# EAGLE library part ACDC02-41SGWA-DUAL-7SEG (library 6502-shield)
Kingsbright ACDC02-41SGWA-F01 SMD Green 7-segment display. Two digits, 0.2" char size
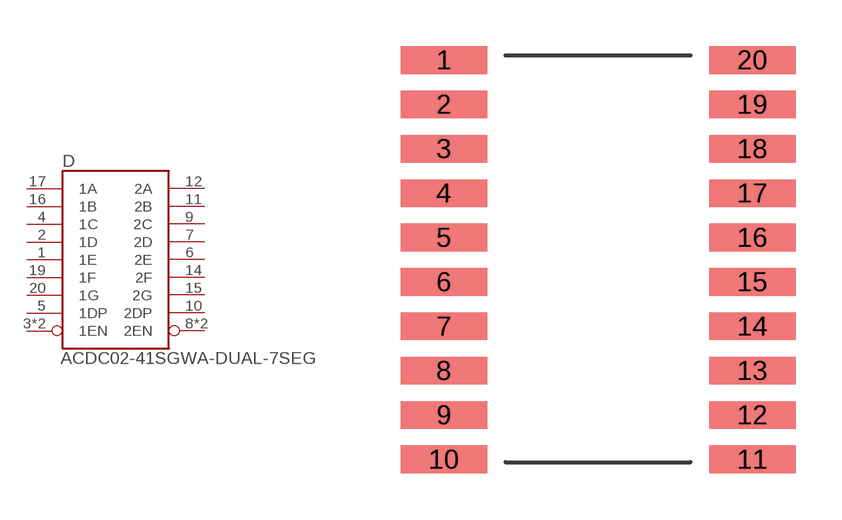
[diagram p6: symbol with the pads of ACDC02-41S-DUAL-7SEG; footprint ACDC02-41S-DUAL-7SEG]

Designator prefix D

## ACDC02-41SGWA-DUAL-7SEG  [ACDC02-41S-DUAL-7SEG]
1  1E
2  1D
3  1EN
4  1C
5  1DP
6  2E
7  2D
8  2EN
9  2C
10  2DP
11  2B
12  2A
13  2EN
14  2F
15  2G
16  1B
17  1A
18  1EN
19  1F
20  1G

## Footprint ACDC02-41S-DUAL-7SEG (pad centres in mm)
smd 2.8 x 0.9: 1 -5,7.2; 2 -5,5.76; 3 -5,4.32; 4 -5,2.88; 5 -5,1.44; 6 -5,0; 7 -5,-1.44; 8 -5,-2.88; 9 -5,-4.32; 10 -5,-5.76; 11 5,-5.76; 12 5,-4.32; 13 5,-2.88; 14 5,-1.44; 15 5,0; 16 5,1.44; 17 5,2.88; 18 5,4.32; 19 5,5.76; 20 5,7.2